# Altium footprint library PCB - CONNECTOR - SAMTEC IPL1-105-01-L-D-K.PCBLIB: 1 footprints
Each footprint in its own frame and in the unit in brackets; x right, y up, seen from the top. Pads: shape width x height; smd on the part's side, far side on the other; paste and mask are expansions set on the pad; w line width, h text height; cw(c..) or ccw(c..) is an arc to the next point about the centre after c.
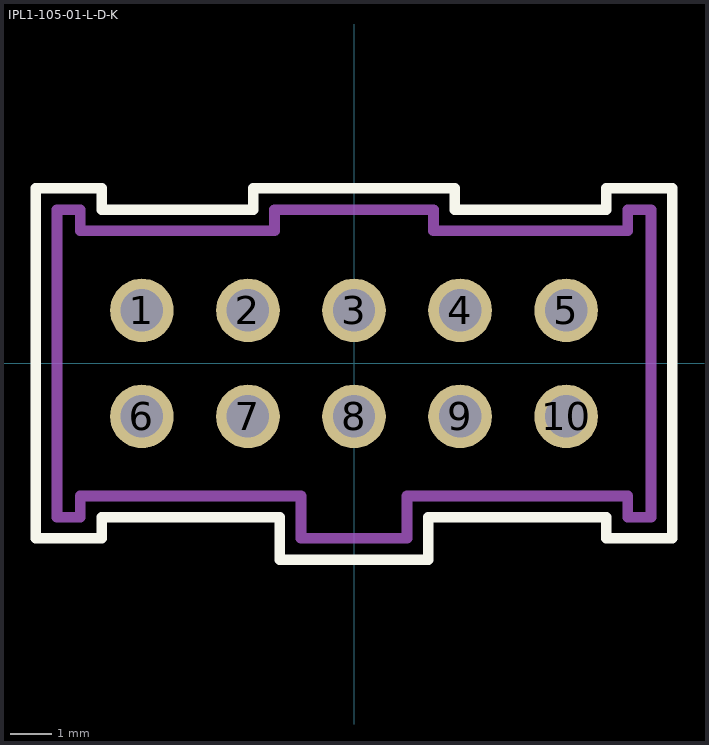
[diagram p0: the footprint, top view; thin cyan lines are the x and y axes]

## IPL1-105-01-L-D-K [mil]
pads (10):
  round 60 hole 40 mask+3: 1(-200,50) 2(-100,50) 3(0,50) 4(100,50) 5(200,50) 6(-200,-50) 7(-100,-50) 8(0,-50) 9(100,-50) 10(200,-50)
Top Overlay:
  lines w10: -300,-165 -300,165 -238,165 -238,145 -95,145 -95,165 95,165 95,145 238,145 238,165 300,165 300,-165 238,-165 238,-145 70,-145 70,-185 -70,-185 -70,-145 -238,-145 -238,-165 -300,-165
M5 Assembly Top:
  lines w10: -280,-145 -280,145 -258,145 -258,125 -75,125 -75,145 75,145 75,125 258,125 258,145 280,145 280,-145 258,-145 258,-125 50,-125 50,-165 -50,-165 -50,-125 -258,-125 -258,-145 -280,-145
  text ".Designator" at -106.3,-39.37 h60
3D body "IPL1-105-01-F-D-K.stp": height 320, standoff -120, extent -279.99,-165 280.01,145